# Altium schematic symbol library dc преобразователи.SchLib: 6 symbols
Pins are listed as number, name and electrical type; pins without a type are passive.

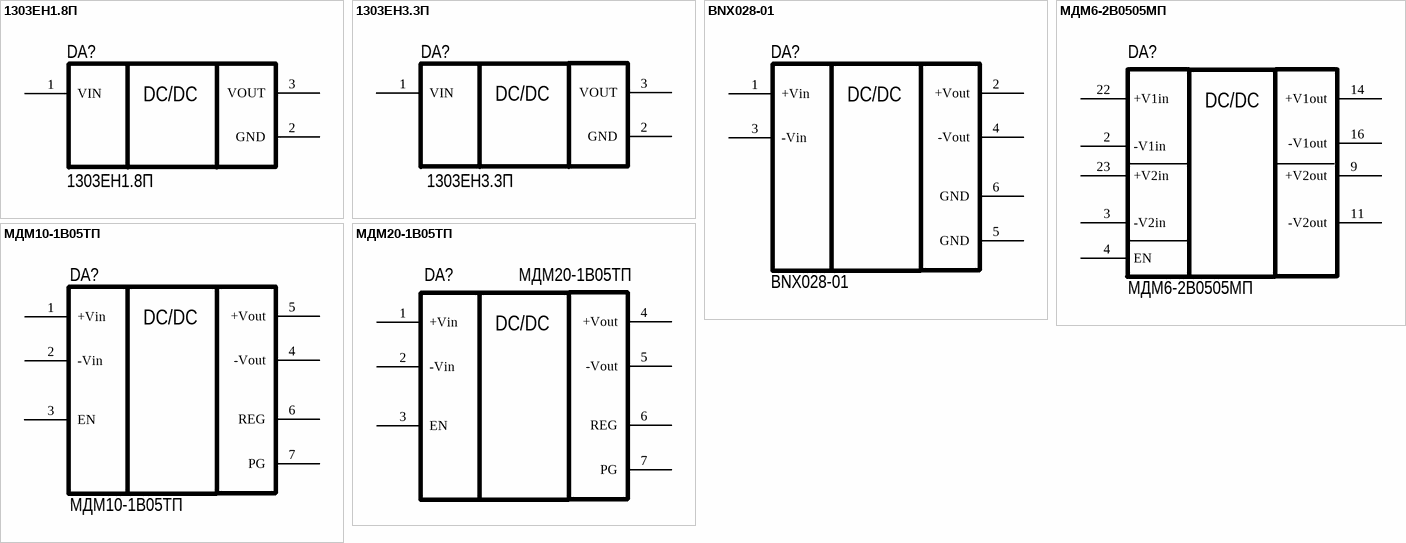
[diagram p0: symbols 1303ЕН1.8П to МДМ20-1В05ТП]

## 1303ЕН1.8П
designator DA?
footprint KT-28A-2_02-1
pins: 1 VIN, 2 GND, 3 VOUT
text: DC/DC

## 1303ЕН3.3П
designator DA?
footprint KT-28A-2_02-1
pins: 1 VIN, 2 GND, 3 VOUT
text: DC/DC

## BNX028-01
designator DA?
footprint BNX012H
pins: 1 +Vin, 2 +Vout, 3 -Vin, 4 -Vout, 5 GND, 6 GND
text: DC/DC

## МДМ6-2В0505МП
designator DA?
footprint МДМ6-П
pins: 2 -V1in, 3 -V2in, 4 EN, 9 +V2out, 11 -V2out, 14 +V1out, 16 -V1out, 22 +V1in, 23 +V2in
text: DC/DC

## МДМ10-1В05ТП
designator DA?
footprint МДМ10-1В05ТП
pins: 1 +Vin, 2 -Vin, 3 EN, 4 -Vout, 5 +Vout, 6 REG, 7 PG
text: DC/DC

## МДМ20-1В05ТП
designator DA?
footprint МДМ20-1В05ТП
pins: 1 +Vin, 2 -Vin, 3 EN, 4 +Vout, 5 -Vout, 6 REG, 7 PG
text: DC/DC